# Altium integrated library Big_Library_Digital_Isolators.IntLib: 2 symbols
Pins are listed as number, name and electrical type; pins without a type are passive.

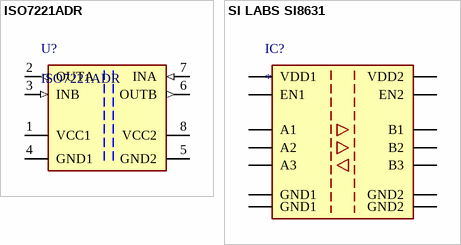
[diagram p0: symbols ISO7221ADR to SI LABS SI8631]

## ISO7221ADR
designator U?
1 Mbps Dual Channels, 1 / 1, Digital Isolator, 3.3 V / 5 V, -40 to +125 degC, 8-pin SOIC (D), Green (RoHS & no Sb/Br); Manufacturer: Texas Instruments; TTL/CMOS Input Threshold: TTL; Input Noise Filter: Yes; Datarate(Mbps): 1; Insulation Rating(VRMS): 2500; Supply Voltage(s)(V): 3.3, 5; Prop Delay(Max)(ns): 475; ComponentLink3URL: SamplesURL:http://www.ti.com/product/iso7221a#samples; ComponentLink1URL: http://www.ti.com/; ComponentLink1Description: Manufacturer URL; ComponentLink3Description: URL Link1; ComponentLink2Description: Datasheet; PackageReference: D0008B; ComponentLink2URL: http://www.ti.com/general/docs/lit/getliterature.tsp?genericPartNumber=ISO7221A&fileType=pdf; PackageDescription: 8-Pin Plastic Small Outline Integrated Circuit, 4.9 x 3.9 mm, Pitch 1.27 mm Pitch; Mounting Technology: Surface Mount; Eco-Plan: Green (RoHS & no Sb/Br); PartNumber: ISO7221ADR; ComponentLink4Description: Link; ComponentLink4URL: https://ozdisan.com/entegre-devreler-icler/interface-entegreleri/digital-izolator-entegreleri/ISO7221ADR/348057
footprint D0008B_M (SOIC, 8-Leads, Body 5x4mm, Pitch 1.27mm, IPC Low Density)
footprint D0008B_N (SOIC, 8-Leads, Body 5x4mm, Pitch 1.27mm, IPC Medium Density)
footprint D0008B_L (SOIC, 8-Leads, Body 5x4mm, Pitch 1.27mm, IPC High Density)
pins: 1 VCC1 (power), 2 OUTA (out), 3 INB (in), 4 GND1 (power), 5 GND2 (power), 6 OUTB (out), 7 INA (in), 8 VCC2 (power)

## SI LABS SI8631
designator IC?
footprint SI LABS SOIC-16 WIDE (SOIC, 16-Leads, Body 10.30x7.50mm, Pitch 1.27mm, IPC Medium Density)
pins: 1 VDD1, 2 GND1, 3 A1, 4 A2, 5 A3, 7 EN1, 8 GND1, 9 GND2, 10 EN2, 12 B3, 13 B2, 14 B1, 15 GND2, 16 VDD2